# EAGLE library part TB6612FNG (library TB6612FNG)
Driver IC for Dual DC motor TB6612FNG is a driver IC for DC motor with output transistor in LD MOS structure with low ON-resistor. Two input signals, IN1 and IN2, can choose one of four modes such as CW, CCW, short brake, and stop mode.
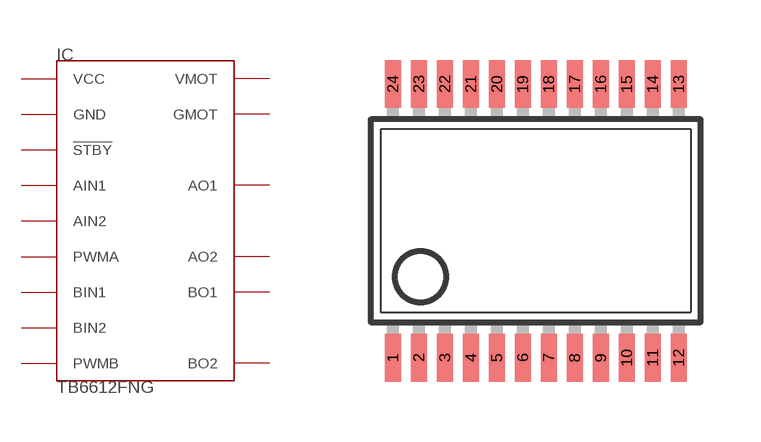
[diagram p0: symbol with the pads of SSOP24; footprint SSOP24]

Designator prefix IC

## TB6612FNG  [SSOP24]
1  AO1
2  AO1
3  GMOT
4  GMOT
5  AO2
6  AO2
7  BO2
8  BO2
9  GMOT
10  GMOT
11  BO1
12  BO1
13  VMOT
14  VMOT
15  PWMB
16  BIN2
17  BIN1
18  GND
19  !STBY!
20  VCC
21  AIN1
22  AIN2
23  PWMA
24  VMOT

## Footprint SSOP24 (pad centres in mm)
Small Shrink Outline Package SOT340-1 / JEDEC MO-150AG
smd 0.4 x 1.2: 1 -3.575,-3.42; 2 -2.925,-3.42; 3 -2.275,-3.42; 4 -1.625,-3.42; 5 -0.975,-3.42; 6 -0.325,-3.42; 7 0.325,-3.42; 8 0.975,-3.42; 9 1.625,-3.42; 10 2.275,-3.42; 11 2.925,-3.42; 12 3.575,-3.42; 13 3.575,3.42; 14 2.925,3.42; 15 2.275,3.42; 16 1.625,3.42; 17 0.975,3.42; 18 0.325,3.42; 19 -0.325,3.42; 20 -0.975,3.42; 21 -1.625,3.42; 22 -2.275,3.42; 23 -2.925,3.42; 24 -3.575,3.42